# Altium schematic symbol library IP2721.SchLib: 1 symbol
Pins are listed as number, name and electrical type; pins without a type are passive.

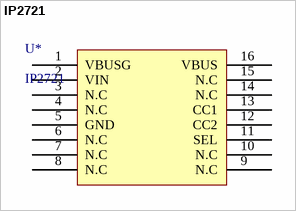
[diagram p0: symbol IP2721]

## IP2721
designator U*
USB C PD Sink IP2721
footprint Model Name (Footprint not found)
pins: 1 VBUSG, 2 VIN, 3 N.C, 4 N.C, 5 GND, 6 N.C, 7 N.C, 8 N.C, 9 N.C, 10 N.C, 11 SEL, 12 CC2, 13 CC1, 14 N.C, 15 N.C, 16 VBUS